# Altium footprint library 2019-03-18_23-24-26.PcbLib: 3 footprints
Each footprint in its own frame and in the unit in brackets; x right, y up, seen from the top. Pads: shape width x height; smd on the part's side, far side on the other; paste and mask are expansions set on the pad; w line width, h text height; cw(c..) or ccw(c..) is an arc to the next point about the centre after c.
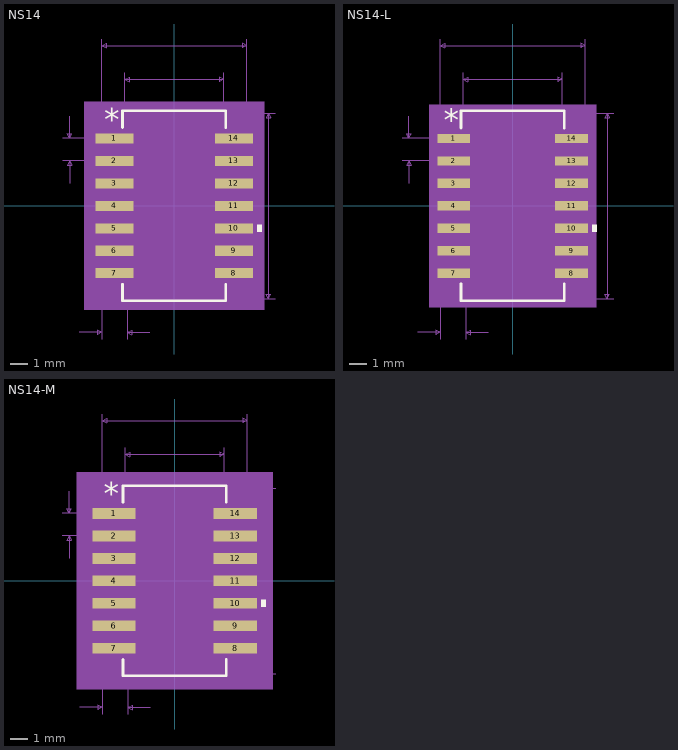
[diagram p0: the footprints below, top view; thin cyan lines are the x and y axes]

## NS14 [mil]
pads (14):
  rect 84.56x22.36 smd paste+0 mask+0: 1(-133,150) 2(-133,100) 3(-133,50) 4(-133,0) 5(-133,-50) 6(-133,-100) 7(-133,-150) 8(133,-150) 9(133,-100) 10(133,-50) 11(133,0) 12(133,50) 13(133,100) 14(133,150)
Top Overlay:
  region: 185.28,-42.5 195.28,-42.5 195.28,-57.5 185.28,-57.5
  lines w6: -115,-174.28 -115,-211.5 115,-211.5 115,-174.28 ; -115,174.28 -115,211.5 115,211.5 115,174.28
  text "*" at -155.5,167.36 h50
Mechanical 5:
  region: 200.28,-231.5 -200.28,-231.5 -200.28,231.5 200.28,231.5
Mechanical 7:
  lines w1: -248,100 -133,100 ; -248,150 -133,150 ; -233,50 -233,100 ; -233,200 -233,150 ; -211.5,-281.5 -161.5,-281.5 ; -161.5,-296.5 -161.5,0 -161.5,371.5 ; -110,0 -110,296.5 ; -104.5,-296.5 -104.5,0 ; -54.5,-281.5 -104.5,-281.5 ; 0,-206.5 225,-206.5 ; 0,206.5 225,206.5 ; 110,0 110,296.5 ; 161.5,0 161.5,371.5 ; -233,100 -238,90 -228,90 -233,100 ; -233,150 -238,160 -228,160 -233,150 ; -161.5,-281.5 -171.5,-276.5 -171.5,-286.5 -161.5,-281.5 ; -161.5,356.5 161.5,356.5 ; -161.5,356.5 -151.5,361.5 -151.5,351.5 -161.5,356.5 ; -110,281.5 110,281.5 ; -110,281.5 -100,286.5 -100,276.5 -110,281.5 ; -104.5,-281.5 -94.5,-276.5 -94.5,-286.5 -104.5,-281.5 ; 110,281.5 100,286.5 100,276.5 110,281.5 ; 161.5,356.5 151.5,361.5 151.5,351.5 161.5,356.5 ; 210,-206.5 210,206.5 ; 210,-206.5 205,-196.5 215,-196.5 210,-206.5 ; 210,206.5 205,196.5 215,196.5 210,206.5
  text "Default Padstyle: r215_57" at -312.5,-406.5 h50
  text "Pin One Padstyle: r215_57" at -312.5,-466.5 h50
  text "Alt 1 Padstyle: b152_229h76" at -337.5,-646.5 h50
  text "Alt 2 Padstyle: b229_152h76" at -337.5,-706.5 h50
  text "0.22in/5.588mm" at -87.5,301.5 h25
  text "0.323in/8.204mm" at -93.75,376.5 h25
  text "0.413in/10.49mm" at 230,-12.5 h25
  text "0.05in/1.27mm" at -415.5,112.5 h25
  text "0.041in/1.041mm" at -226.75,-326.5 h25
Mechanical 13:
  lines w0: -12,206.5 ccw(c0,206.5) 12,206.5
  lines w1: -161.5,-160 -161.5,-140 -110,-140 -110,-160 -161.5,-160 ; -161.5,-110 -161.5,-90 -110,-90 -110,-110 -161.5,-110 ; -161.5,-60 -161.5,-40 -110,-40 -110,-60 -161.5,-60 ; -161.5,-10 -161.5,10 -110,10 -110,-10 -161.5,-10 ; -161.5,40 -161.5,60 -110,60 -110,40 -161.5,40 ; -161.5,90 -161.5,110 -110,110 -110,90 -161.5,90 ; -161.5,140 -161.5,160 -110,160 -110,140 -161.5,140 ; -110,-206.5 110,-206.5 110,206.5 -110,206.5 -110,-206.5 ; 110,-160 110,-140 161.5,-140 161.5,-160 110,-160 ; 110,-110 110,-90 161.5,-90 161.5,-110 110,-110 ; 110,-60 110,-40 161.5,-40 161.5,-60 110,-60 ; 110,-10 110,10 161.5,10 161.5,-10 110,-10 ; 110,40 110,60 161.5,60 161.5,40 110,40 ; 110,90 110,110 161.5,110 161.5,90 110,90 ; 110,140 110,160 161.5,160 161.5,140 110,140
  text "*" at -107.5,153.5 h50
Mechanical 15:
  region: -120,-171.18 -185.28,-171.18 -185.28,171.18 -120,171.18 -120,216.5 120,216.5 120,171.18 185.28,171.18 185.28,-171.18 120,-171.18 120,-216.5 -120,-216.5
  lines w6: -185.28,-171.18 -185.28,171.18 -120,171.18 -120,216.5 120,216.5 120,171.18 185.28,171.18 185.28,-171.18 120,-171.18 120,-216.5 -120,-216.5 -120,-171.18 -185.28,-171.18
3D body: height 10, standoff 0, extent 0,0 10,10

## NS14-L [mil]
pads (14):
  rect 72.75x20.79 smd paste+0 mask+0: 1(-131.03,150) 2(-131.03,100) 3(-131.03,50) 4(-131.03,0) 5(-131.03,-50) 6(-131.03,-100) 7(-131.03,-150) 8(131.03,-150) 9(131.03,-100) 10(131.03,-50) 11(131.03,0) 12(131.03,50) 13(131.03,100) 14(131.03,150)
Top Overlay:
  region: 177.41,-42.5 187.41,-42.5 187.41,-57.5 177.41,-57.5
  lines w6: -115,-173.49 -115,-211.5 115,-211.5 115,-173.49 ; -115,173.49 -115,211.5 115,211.5 115,173.49
  text "*" at -153.53,165.79 h50
Mechanical 5:
  region: 186.41,-225.5 -186.41,-225.5 -186.41,225.5 186.41,225.5
Mechanical 7:
  lines w1: -246.03,100 -131.03,100 ; -246.03,150 -131.03,150 ; -231.03,50 -231.03,100 ; -231.03,200 -231.03,150 ; -211.5,-281.5 -161.5,-281.5 ; -161.5,-296.5 -161.5,0 -161.5,371.5 ; -110,0 -110,296.5 ; -104.5,-296.5 -104.5,0 ; -54.5,-281.5 -104.5,-281.5 ; 0,-206.5 225,-206.5 ; 0,206.5 225,206.5 ; 110,0 110,296.5 ; 161.5,0 161.5,371.5 ; -231.03,100 -236.03,90 -226.03,90 -231.03,100 ; -231.03,150 -236.03,160 -226.03,160 -231.03,150 ; -161.5,-281.5 -171.5,-276.5 -171.5,-286.5 -161.5,-281.5 ; -161.5,356.5 161.5,356.5 ; -161.5,356.5 -151.5,361.5 -151.5,351.5 -161.5,356.5 ; -110,281.5 110,281.5 ; -110,281.5 -100,286.5 -100,276.5 -110,281.5 ; -104.5,-281.5 -94.5,-276.5 -94.5,-286.5 -104.5,-281.5 ; 110,281.5 100,286.5 100,276.5 110,281.5 ; 161.5,356.5 151.5,361.5 151.5,351.5 161.5,356.5 ; 210,-206.5 210,206.5 ; 210,-206.5 205,-196.5 215,-196.5 210,-206.5 ; 210,206.5 205,196.5 215,196.5 210,206.5
  text "Default Padstyle: r185_53" at -312.5,-406.5 h50
  text "Pin One Padstyle: r185_53" at -312.5,-466.5 h50
  text "Alt 1 Padstyle: b152_229h76" at -337.5,-646.5 h50
  text "Alt 2 Padstyle: b229_152h76" at -337.5,-706.5 h50
  text "0.22in/5.588mm" at -87.5,301.5 h25
  text "0.323in/8.204mm" at -93.75,376.5 h25
  text "0.413in/10.49mm" at 230,-12.5 h25
  text "0.05in/1.27mm" at -413.53,112.5 h25
  text "0.041in/1.041mm" at -226.75,-326.5 h25
Mechanical 13:
  lines w0: -12,206.5 ccw(c0,206.5) 12,206.5
  lines w1: -161.5,-160 -161.5,-140 -110,-140 -110,-160 -161.5,-160 ; -161.5,-110 -161.5,-90 -110,-90 -110,-110 -161.5,-110 ; -161.5,-60 -161.5,-40 -110,-40 -110,-60 -161.5,-60 ; -161.5,-10 -161.5,10 -110,10 -110,-10 -161.5,-10 ; -161.5,40 -161.5,60 -110,60 -110,40 -161.5,40 ; -161.5,90 -161.5,110 -110,110 -110,90 -161.5,90 ; -161.5,140 -161.5,160 -110,160 -110,140 -161.5,140 ; -110,-206.5 110,-206.5 110,206.5 -110,206.5 -110,-206.5 ; 110,-160 110,-140 161.5,-140 161.5,-160 110,-160 ; 110,-110 110,-90 161.5,-90 161.5,-110 110,-110 ; 110,-60 110,-40 161.5,-40 161.5,-60 110,-60 ; 110,-10 110,10 161.5,10 161.5,-10 110,-10 ; 110,40 110,60 161.5,60 161.5,40 110,40 ; 110,90 110,110 161.5,110 161.5,90 110,90 ; 110,140 110,160 161.5,160 161.5,140 110,140
  text "*" at -107.5,153.5 h50
Mechanical 15:
  region: -114,-164.39 -171.41,-164.39 -171.41,164.39 -114,164.39 -114,210.5 114,210.5 114,164.39 171.41,164.39 171.41,-164.39 114,-164.39 114,-210.5 -114,-210.5
  lines w6: -171.41,-164.39 -171.41,164.39 -114,164.39 -114,210.5 114,210.5 114,164.39 171.41,164.39 171.41,-164.39 114,-164.39 114,-210.5 -114,-210.5 -114,-164.39 -171.41,-164.39
3D body: height 10, standoff 0, extent 0,0 10,10

## NS14-M [mil]
pads (14):
  rect 96.37x23.94 smd paste+0 mask+0: 1(-134.97,150) 2(-134.97,100) 3(-134.97,50) 4(-134.97,0) 5(-134.97,-50) 6(-134.97,-100) 7(-134.97,-150) 8(134.97,-150) 9(134.97,-100) 10(134.97,-50) 11(134.97,0) 12(134.97,50) 13(134.97,100) 14(134.97,150)
Top Overlay:
  region: 193.15,-42.5 203.15,-42.5 203.15,-57.5 193.15,-57.5
  lines w6: -115,-175.07 -115,-211.5 115,-211.5 115,-175.07 ; -115,175.07 -115,211.5 115,211.5 115,175.07
  text "*" at -157.47,168.94 h50
Mechanical 5:
  region: 218.15,-241.5 -218.15,-241.5 -218.15,241.5 218.15,241.5
Mechanical 7:
  lines w1: -249.97,100 -134.97,100 ; -249.97,150 -134.97,150 ; -234.97,50 -234.97,100 ; -234.97,200 -234.97,150 ; -211.5,-281.5 -161.5,-281.5 ; -161.5,-296.5 -161.5,0 -161.5,371.5 ; -110,0 -110,296.5 ; -104.5,-296.5 -104.5,0 ; -54.5,-281.5 -104.5,-281.5 ; 0,-206.5 225,-206.5 ; 0,206.5 225,206.5 ; 110,0 110,296.5 ; 161.5,0 161.5,371.5 ; -234.97,100 -239.97,90 -229.97,90 -234.97,100 ; -234.97,150 -239.97,160 -229.97,160 -234.97,150 ; -161.5,-281.5 -171.5,-276.5 -171.5,-286.5 -161.5,-281.5 ; -161.5,356.5 161.5,356.5 ; -161.5,356.5 -151.5,361.5 -151.5,351.5 -161.5,356.5 ; -110,281.5 110,281.5 ; -110,281.5 -100,286.5 -100,276.5 -110,281.5 ; -104.5,-281.5 -94.5,-276.5 -94.5,-286.5 -104.5,-281.5 ; 110,281.5 100,286.5 100,276.5 110,281.5 ; 161.5,356.5 151.5,361.5 151.5,351.5 161.5,356.5 ; 210,-206.5 210,206.5 ; 210,-206.5 205,-196.5 215,-196.5 210,-206.5 ; 210,206.5 205,196.5 215,196.5 210,206.5
  text "Default Padstyle: r245_61" at -312.5,-406.5 h50
  text "Pin One Padstyle: r245_61" at -312.5,-466.5 h50
  text "Alt 1 Padstyle: b152_229h76" at -337.5,-646.5 h50
  text "Alt 2 Padstyle: b229_152h76" at -337.5,-706.5 h50
  text "0.22in/5.588mm" at -87.5,301.5 h25
  text "0.323in/8.204mm" at -93.75,376.5 h25
  text "0.413in/10.49mm" at 230,-12.5 h25
  text "0.05in/1.27mm" at -417.47,112.5 h25
  text "0.041in/1.041mm" at -226.75,-326.5 h25
Mechanical 13:
  lines w0: -12,206.5 ccw(c0,206.5) 12,206.5
  lines w1: -161.5,-160 -161.5,-140 -110,-140 -110,-160 -161.5,-160 ; -161.5,-110 -161.5,-90 -110,-90 -110,-110 -161.5,-110 ; -161.5,-60 -161.5,-40 -110,-40 -110,-60 -161.5,-60 ; -161.5,-10 -161.5,10 -110,10 -110,-10 -161.5,-10 ; -161.5,40 -161.5,60 -110,60 -110,40 -161.5,40 ; -161.5,90 -161.5,110 -110,110 -110,90 -161.5,90 ; -161.5,140 -161.5,160 -110,160 -110,140 -161.5,140 ; -110,-206.5 110,-206.5 110,206.5 -110,206.5 -110,-206.5 ; 110,-160 110,-140 161.5,-140 161.5,-160 110,-160 ; 110,-110 110,-90 161.5,-90 161.5,-110 110,-110 ; 110,-60 110,-40 161.5,-40 161.5,-60 110,-60 ; 110,-10 110,10 161.5,10 161.5,-10 110,-10 ; 110,40 110,60 161.5,60 161.5,40 110,40 ; 110,90 110,110 161.5,110 161.5,90 110,90 ; 110,140 110,160 161.5,160 161.5,140 110,140
  text "*" at -107.5,153.5 h50
Mechanical 15:
  region: -130,-181.97 -203.15,-181.97 -203.15,181.97 -130,181.97 -130,226.5 130,226.5 130,181.97 203.15,181.97 203.15,-181.97 130,-181.97 130,-226.5 -130,-226.5
  lines w6: -203.15,-181.97 -203.15,181.97 -130,181.97 -130,226.5 130,226.5 130,181.97 203.15,181.97 203.15,-181.97 130,-181.97 130,-226.5 -130,-226.5 -130,-181.97 -203.15,-181.97
3D body: height 10, standoff 0, extent 0,0 10,10